# Altium schematic symbol library 1803277.SchLib: 1 symbol
Pins are listed as number, name and electrical type; pins without a type are passive.

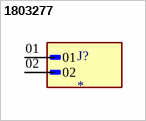
[diagram p0: symbol 1803277]

## 1803277
designator J?
Pluggable Header 3.81mm 16AWG 160V 8A 2 Position COMBICON MC Series | Phoenix Contact 1803277; SnapEDA_Link: https://www.snapeda.com/parts/1803277/Phoenix+Contact/view-part/?ref=snap; Package: None; Value: *; MF: Phoenix Contact; MP: 1803277; Check_prices: https://www.snapeda.com/parts/1803277/Phoenix+Contact/view-part/?ref=eda
footprint PHOENIX_1803277
pins: 01, 02